# EAGLE library part LM386M (library OPL)
Low Voltage Audio Power Amplifier http://www.ti.com/lit/ds/symlink/lm386.pdf
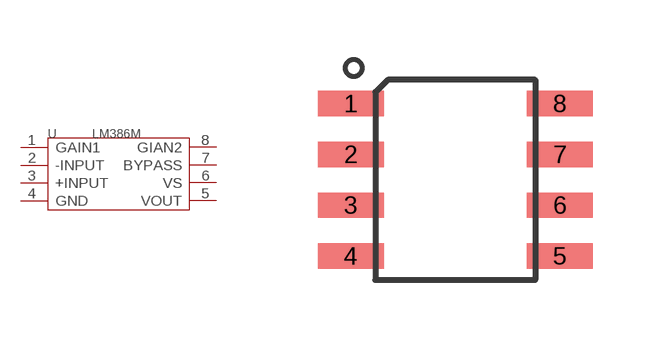
[diagram p9: symbol with the pads of SOIC8; footprint SOIC8]

Designator prefix U

## LM386M-1100070P1  [SOIC8]
1  GAIN1
2  -INPUT  in
3  +INPUT  in
4  GND  sup
5  VOUT  out
6  VS  sup
7  BYPASS
8  GIAN2

## Footprint SOIC8 (pad centres in mm)
Small Outline Package
smd 1.651 x 0.635: 1 -2.616,1.905; 2 -2.616,0.635; 3 -2.616,-0.635; 4 -2.616,-1.905; 5 2.616,-1.905; 6 2.616,-0.635; 7 2.616,0.635; 8 2.616,1.905